# EAGLE library part RHD2164_BGA (library RHD2000)
Intan Technologies RHD2164 chip, BGA package (9x7mm 104-pin)
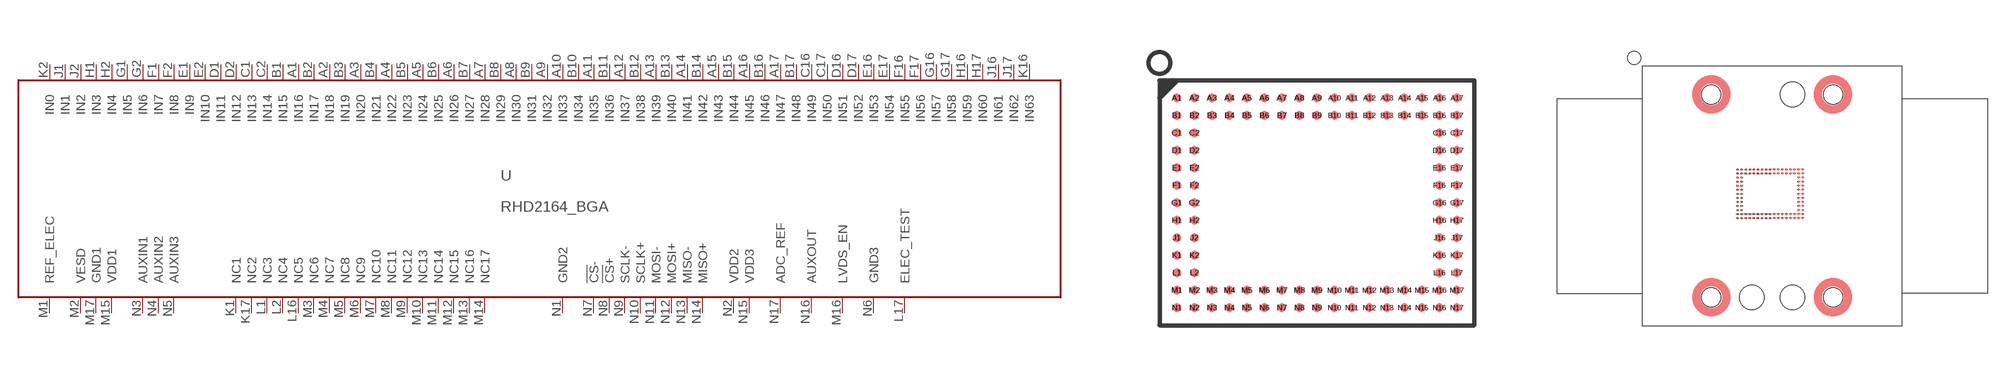
[diagram p9: symbol with the pads of BGA104_9X7; footprints BGA104_9X7, BGA104_9X7_ZIF]

Designator prefix -

## RHD2164_BGA_BGA  [BGA104_9X7]
A1  IN16  in
A2  IN18  in
A3  IN20  in
A4  IN22  in
A5  IN24  in
A6  IN26  in
A7  IN28  in
A8  IN30  in
A9  IN32  in
A10  IN33  in
A11  IN35  in
A12  IN37  in
A13  IN39  in
A14  IN41  in
A15  IN43  in
A16  IN45  in
A17  IN47  in
B1  IN15  in
B2  IN17  in
B3  IN19  in
B4  IN21  in
B5  IN23  in
B6  IN25  in
B7  IN27  in
B8  IN29  in
B9  IN31  in
B10  IN34  in
B11  IN36  in
B12  IN38  in
B13  IN40  in
B14  IN42  in
B15  IN44  in
B16  IN46  in
B17  IN48  in
C1  IN13  in
C2  IN14  in
C16  IN49  in
C17  IN50  in
D1  IN11  in
D2  IN12  in
D16  IN51  in
D17  IN52  in
E1  IN9  in
E2  IN10  in
E16  IN53  in
E17  IN54  in
F1  IN7  in
F2  IN8  in
F16  IN55  in
F17  IN56  in
G1  IN5  in
G2  IN6  in
G16  IN57  in
G17  IN58  in
H1  IN3  in
H2  IN4  in
H16  IN59  in
H17  IN60  in
J1  IN1  in
J2  IN2  in
J16  IN61  in
J17  IN62  in
K1  NC1  nc
K2  IN0  in
K16  IN63  in
K17  NC2  nc
L1  NC3  nc
L2  NC4  nc
L16  NC5  nc
L17  ELEC_TEST  in
M1  REF_ELEC  in
M2  VESD  pwr
M3  NC6  nc
M4  NC7  nc
M5  NC8  nc
M6  NC9  nc
M7  NC10  nc
M8  NC11  nc
M9  NC12  nc
M10  NC13  nc
M11  NC14  nc
M12  NC15  nc
M13  NC16  nc
M14  NC17  nc
M15  VDD1  pwr
M16  LVDS_EN  in
M17  GND1  pwr
N1  GND2  pwr
N2  VDD2  pwr
N3  AUXIN1  in
N4  AUXIN2  in
N5  AUXIN3  in
N6  GND3  pwr
N7  !CS!-  in
N8  !CS!+  in
N9  SCLK-  in
N10  SCLK+  in
N11  MOSI-  in
N12  MOSI+  in
N13  MISO-  out
N14  MISO+  out
N15  VDD3  pwr
N16  AUXOUT  hiz
N17  ADC_REF  pas

## RHD2164_BGA_ZIF  [BGA104_9X7_ZIF]
Pads as for BGA104_9X7

## Footprint BGA104_9X7 (pad centres in mm)
104 pin BGA in 9x7 mm package with 0.5 mm pitch
smd 0.25 x 0.25: A1 -4,3; A2 -3.5,3; A3 -3,3; A4 -2.5,3; A5 -2,3; A6 -1.5,3; A7 -1,3; A8 -0.5,3; A9 0,3; A10 0.5,3; A11 1,3; A12 1.5,3; A13 2,3; A14 2.5,3; A15 3,3; A16 3.5,3; A17 4,3; B1 -4,2.5; B2 -3.5,2.5; B3 -3,2.5; B4 -2.5,2.5; B5 -2,2.5; B6 -1.5,2.5; B7 -1,2.5; B8 -0.5,2.5; B9 0,2.5; B10 0.5,2.5; B11 1,2.5; B12 1.5,2.5; B13 2,2.5; B14 2.5,2.5; B15 3,2.5; B16 3.5,2.5; B17 4,2.5; C1 -4,2; C2 -3.5,2; C16 3.5,2; C17 4,2; D1 -4,1.5; D2 -3.5,1.5; D16 3.5,1.5; D17 4,1.5; E1 -4,1; E2 -3.5,1; E16 3.5,1; E17 4,1; F1 -4,0.5; F2 -3.5,0.5; F16 3.5,0.5; F17 4,0.5; G1 -4,0; G2 -3.5,0; G16 3.5,0; G17 4,0; H1 -4,-0.5; H2 -3.5,-0.5; H16 3.5,-0.5; H17 4,-0.5; J1 -4,-1; J2 -3.5,-1; J16 3.5,-1; J17 4,-1; K1 -4,-1.5; K2 -3.5,-1.5; K16 3.5,-1.5; K17 4,-1.5; L1 -4,-2; L2 -3.5,-2; L16 3.5,-2; L17 4,-2; M1 -4,-2.5; M2 -3.5,-2.5; M3 -3,-2.5; M4 -2.5,-2.5; M5 -2,-2.5; M6 -1.5,-2.5; M7 -1,-2.5; M8 -0.5,-2.5; M9 0,-2.5; M10 0.5,-2.5; M11 1,-2.5; M12 1.5,-2.5; M13 2,-2.5; M14 2.5,-2.5; M15 3,-2.5; M16 3.5,-2.5; M17 4,-2.5; N1 -4,-3; N2 -3.5,-3; N3 -3,-3; N4 -2.5,-3; N5 -2,-3; N6 -1.5,-3; N7 -1,-3; N8 -0.5,-3; N9 0,-3; N10 0.5,-3; N11 1,-3; N12 1.5,-3; N13 2,-3; N14 2.5,-3; N15 3,-3; N16 3.5,-3; N17 4,-3

## Footprint BGA104_9X7_ZIF (pad centres in mm)
smd 0.34 x 0.34: A1 -4.25,3.25; A2 -3.75,3.25; A3 -3.25,3.25; A4 -2.75,3.25; A5 -2.25,3.25; A6 -1.75,3.25; A7 -1.25,3.25; A8 -0.75,3.25; A9 -0.25,3.25; A10 0.25,3.25; A11 0.75,3.25; A12 1.25,3.25; A13 1.75,3.25; A14 2.25,3.25; A15 2.75,3.25; A16 3.25,3.25; A17 3.75,3.25; B1 -4.25,2.75; B2 -3.75,2.75; B3 -3.25,2.75; B4 -2.75,2.75; B5 -2.25,2.75; B6 -1.75,2.75; B7 -1.25,2.75; B8 -0.75,2.75; B9 -0.25,2.75; B10 0.25,2.75; B11 0.75,2.75; B12 1.25,2.75; B13 1.75,2.75; B14 2.25,2.75; B15 2.75,2.75; B16 3.25,2.75; B17 3.75,2.75; C1 -4.25,2.25; C2 -3.75,2.25; C16 3.25,2.25; C17 3.75,2.25; D1 -4.25,1.75; D2 -3.75,1.75; D16 3.25,1.75; D17 3.75,1.75; E1 -4.25,1.25; E2 -3.75,1.25; E16 3.25,1.25; E17 3.75,1.25; F1 -4.25,0.75; F2 -3.75,0.75; F16 3.25,0.75; F17 3.75,0.75; G1 -4.25,0.25; G2 -3.75,0.25; G16 3.25,0.25; G17 3.75,0.25; H1 -4.25,-0.25; H2 -3.75,-0.25; H16 3.25,-0.25; H17 3.75,-0.25; J1 -4.25,-0.75; J2 -3.75,-0.75; J16 3.25,-0.75; J17 3.75,-0.75; K1 -4.25,-1.25; K2 -3.75,-1.25; K16 3.25,-1.25; K17 3.75,-1.25; L1 -4.25,-1.75; L2 -3.75,-1.75; L16 3.25,-1.75; L17 3.75,-1.75; M1 -4.25,-2.25; M2 -3.75,-2.25; M3 -3.25,-2.25; M4 -2.75,-2.25; M5 -2.25,-2.25; M6 -1.75,-2.25; M7 -1.25,-2.25; M8 -0.75,-2.25; M9 -0.25,-2.25; M10 0.25,-2.25; M11 0.75,-2.25; M12 1.25,-2.25; M13 1.75,-2.25; M14 2.25,-2.25; M15 2.75,-2.25; M16 3.25,-2.25; M17 3.75,-2.25; N1 -4.25,-2.75; N2 -3.75,-2.75; N3 -3.25,-2.75; N4 -2.75,-2.75; N5 -2.25,-2.75; N6 -1.75,-2.75; N7 -1.25,-2.75; N8 -0.75,-2.75; N9 -0.25,-2.75; N10 0.25,-2.75; N11 0.75,-2.75; N12 1.25,-2.75; N13 1.75,-2.75; N14 2.25,-2.75; N15 2.75,-2.75; N16 3.25,-2.75; N17 3.75,-2.75
hole 3.048 at 2.5,12.5
hole 3.048 at 2.5,-12.5
hole 3.048 at -2.5,-12.5
hole 2.381 at 7.5,12.5
hole 2.381 at -7.5,12.5
hole 2.381 at 7.5,-12.5
hole 2.381 at -7.5,-12.5